# Altium schematic symbol library FMA_Sensor.SchLib: 8 symbols
Pins are listed as number, name and electrical type; pins without a type are passive.

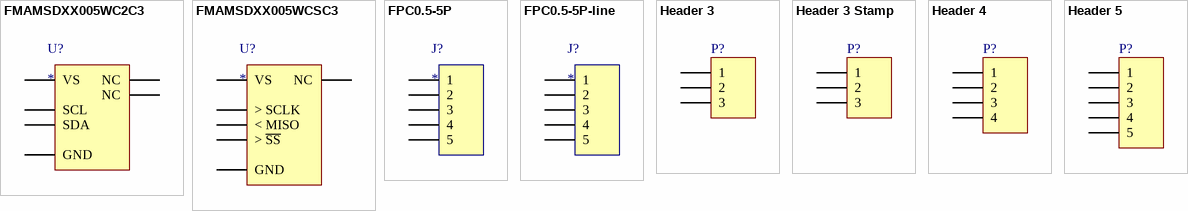
[diagram p0: symbols FMAMSDXX005WC2C3 to Header 5]

## FMAMSDXX005WC2C3
designator U?
Force Range: 5N / Output: I2C, address 0x28 / FMA Series Force Sensor, compensated/amplified, mechanically / coupled, sphere contact element, sensor short and open / diagnostics, 5 N force range, compression force type, I2C digital / output, address 0x28, 20% to 80% transfer function, 3.3 V ±10% / supply voltage
footprint FMA_MICROFORCE_6
footprint FMA_MICROFORCE_6-EXTENED
pins: 1 VS, 2 NC, 3 GND, 4 SCL, 5 SDA, 6 NC

## FMAMSDXX005WCSC3
designator U?
Force Range: 5N / Output: SPI / FMA Series Force Sensor, compensated/amplified, mechanically / coupled, sphere contact element, sensor short and open / diagnostics, 5 N force range, compression force type, SPI digital / output, 20% to 80% transfer function, 3.3 V ±10% supply voltage
footprint FMA_MICROFORCE_6
footprint FMA_MICROFORCE_6-EXTENED
pins: 1 VS, 2 > ~{SS}, 3 GND, 4 > SCLK, 5 < MISO, 6 NC

## FPC0.5-5P
designator J?
footprint FPC0.5-5P
pins: 1, 2, 3, 4, 5

## FPC0.5-5P-line
designator J?
footprint FPC0.5-5P-Line
pins: 1, 2, 3, 4, 5

## Header 3
designator P?
Header, 3-Pin; LatestRevisionDate: 17-Jul-2002; LatestRevisionNote: Re-released for DXP Platform.; Publisher: Altium Limited
signal-integrity model Connector
footprint HDR1X3 (Connector; Header; 3 Position)
pins: 1, 2, 3

## Header 3 Stamp
designator P?
Header, 3-Pin, Stamp; LatestRevisionDate: 17-Jul-2002; LatestRevisionNote: Re-released for DXP Platform.; Publisher: Altium Limited
signal-integrity model Connector
footprint HDR1X3 - stamp (Connector; Header; 3 Position)
pins: 1, 2, 3

## Header 4
designator P?
Header, 4-Pin; LatestRevisionDate: 17-Jul-2002; LatestRevisionNote: Re-released for DXP Platform.; Publisher: Altium Limited
signal-integrity model Connector
footprint Header 2.54X4
footprint HDR1X4 (Connector; Header; 4 Position)
pins: 1, 2, 3, 4

## Header 5
designator P?
Header, 4-Pin; LatestRevisionDate: 17-Jul-2002; LatestRevisionNote: Re-released for DXP Platform.; Publisher: Altium Limited
signal-integrity model Connector
footprint HDR1X5 (Connector; Header; 4 Position)
footprint HDR1X5-2 (Connector; Header; 4 Position)
pins: 1, 2, 3, 4, 5